# EAGLE library part ACS781LLRTR-100U-T (library HEXABITZ_ICs)
Thermally Enhanced Smd Current Sensor Ic
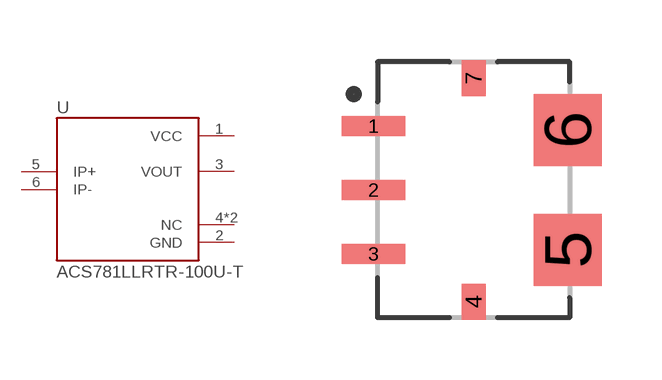
[diagram p16: symbol with the pads of XDCR_ACS781LLRTR-100U-T; footprint XDCR_ACS781LLRTR-100U-T]

Designator prefix U

## ACS781LLRTR-100U-T (AVAILABILITY: Unavailable; DESCRIPTION: Current Sensor 100A 1 Channel Hall Effect, Differential Unidirectional 7-PowerSMD Module; MFN: Allegro MicroSystems LLC; MPN: ACS781LLRTR-100B-T; OCTOPART_URL: https://octopart.com/acs781llrtr-100b-t-allegro+microsystems+llc-75430449?r=sp#; PACKAGE: PowerSMD-7 Allegro MicroSystems LLC)  [XDCR_ACS781LLRTR-100U-T]
1  VCC  pwr
2  GND  pwr
3  VOUT  out
4  NC  pwr
5  IP+
6  IP-
7  NC  pwr

## Footprint XDCR_ACS781LLRTR-100U-T (pad centres in mm)
smd 1.6 x 0.5: 1 -2.5,1.6; 2 -2.5,0; 3 -2.5,-1.6
smd 0.6 x 0.9: 4 0,-2.8; 7 0,2.8
smd 1.7 x 1.8: 5 2.35,-1.5; 6 2.35,1.5